# EAGLE library part MRF89XAM (library X893)
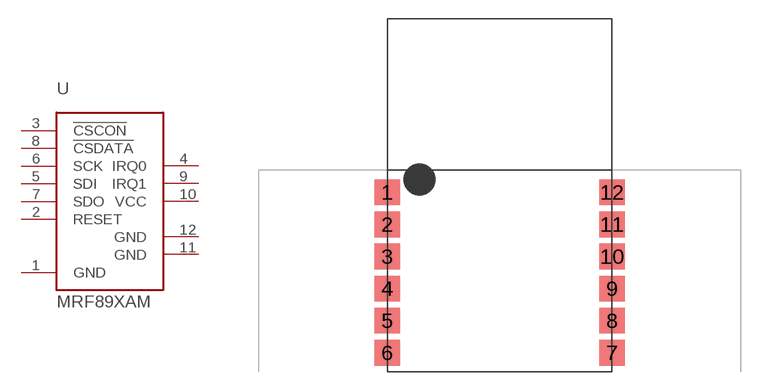
[diagram p159: symbol with the pads of MRF89XAM; footprint MRF89XAM]

Designator prefix U

## MRF89XAM8A  [MRF89XAM]
1  GND  sup
2  RESET  in
3  !CSCON  in
4  IRQ0  out
5  SDI  in
6  SCK  in
7  SDO  out
8  !CSDATA  in
9  IRQ1  out
10  VCC  pwr
11  GND  sup
12  GND  sup

## Footprint MRF89XAM (pad centres in mm)
smd 2.032 x 2.032: 1 0,14.224; 2 0,11.684; 3 0,9.144; 4 0,6.604; 5 0,4.064; 6 0,1.524; 7 17.78,1.524; 8 17.78,4.064; 9 17.78,6.604; 10 17.78,9.144; 11 17.78,11.684; 12 17.78,14.224